# EAGLE library part IS42S32800L (library Public)
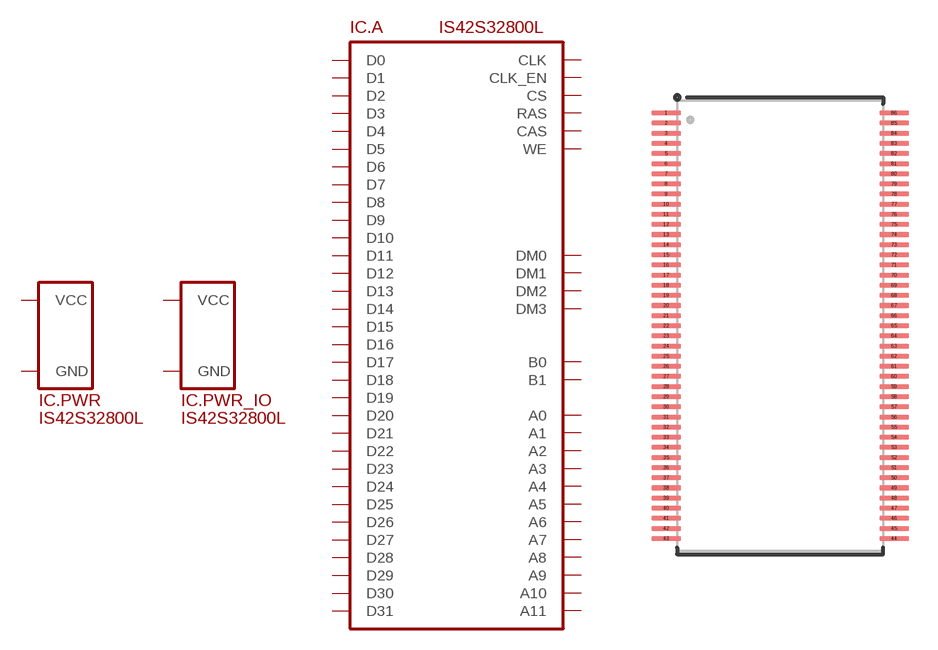
[diagram p72: symbol with the pads of TSOP86_II; footprint TSOP86_II]

Designator prefix IC; gates .PWR=SUPPLY_VCC/GND .PWR_IO=SUPPLY_VCC/GND .A=IS42S32800L

## IS42S32800L  [TSOP86_II]
1  .PWR:VCC
2  .A:D0
3  .PWR_IO:VCC
4  .A:D1
5  .A:D2
6  .PWR_IO:GND
7  .A:D3
8  .A:D4
9  .PWR_IO:VCC
10  .A:D5
11  .A:D6
12  .PWR_IO:GND
13  .A:D7
15  .PWR:VCC
16  .A:DM0
17  .A:WE
18  .A:CAS
19  .A:RAS
20  .A:CS
21  .A:A11
22  .A:B0
23  .A:B1
24  .A:A10
25  .A:A0
26  .A:A1
27  .A:A2
28  .A:DM2
29  .PWR:VCC
31  .A:D16
32  .PWR_IO:GND
33  .A:D17
34  .A:D18
35  .PWR_IO:VCC
36  .A:D19
37  .A:D20
38  .PWR_IO:GND
39  .A:D21
40  .A:D22
41  .PWR_IO:VCC
42  .A:D23
43  .PWR:VCC
44  .PWR:GND
45  .A:D24
46  .PWR_IO:GND
47  .A:D25
48  .A:D26
49  .PWR_IO:VCC
50  .A:D27
51  .A:D28
52  .PWR_IO:GND
53  .A:D29
54  .A:D30
55  .PWR_IO:VCC
56  .A:D31
58  .PWR:GND
59  .A:DM3
60  .A:A3
61  .A:A4
62  .A:A5
63  .A:A6
64  .A:A7
65  .A:A8
66  .A:A9
67  .A:CLK_EN
68  .A:CLK
71  .A:DM1
72  .PWR:GND
74  .A:D8
75  .PWR_IO:VCC
76  .A:D9
77  .A:D10
78  .PWR_IO:GND
79  .A:D11
80  .A:D12
81  .PWR_IO:VCC
82  .A:D13
83  .A:D14
84  .PWR_IO:GND
85  .A:D15
86  .PWR:GND

## Footprint TSOP86_II (pad centres in mm)
smd 1.44 x 0.25: 1 -5.62,10.5; 2 -5.62,10; 3 -5.62,9.5; 4 -5.62,9; 5 -5.62,8.5; 6 -5.62,8; 7 -5.62,7.5; 8 -5.62,7; 9 -5.62,6.5; 10 -5.62,6; 11 -5.62,5.5; 12 -5.62,5; 13 -5.62,4.5; 14 -5.62,4; 15 -5.62,3.5; 16 -5.62,3; 17 -5.62,2.5; 18 -5.62,2; 19 -5.62,1.5; 20 -5.62,1; 21 -5.62,0.5; 22 -5.62,0; 23 -5.62,-0.5; 24 -5.62,-1; 25 -5.62,-1.5; 26 -5.62,-2; 27 -5.62,-2.5; 28 -5.62,-3; 29 -5.62,-3.5; 30 -5.62,-4; 31 -5.62,-4.5; 32 -5.62,-5; 33 -5.62,-5.5; 34 -5.62,-6; 35 -5.62,-6.5; 36 -5.62,-7; 37 -5.62,-7.5; 38 -5.62,-8; 39 -5.62,-8.5; 40 -5.62,-9; 41 -5.62,-9.5; 42 -5.62,-10; 43 -5.62,-10.5; 44 5.62,-10.5; 45 5.62,-10; 46 5.62,-9.5; 47 5.62,-9; 48 5.62,-8.5; 49 5.62,-8; 50 5.62,-7.5; 51 5.62,-7; 52 5.62,-6.5; 53 5.62,-6; 54 5.62,-5.5; 55 5.62,-5; 56 5.62,-4.5; 57 5.62,-4; 58 5.62,-3.5; 59 5.62,-3; 60 5.62,-2.5; 61 5.62,-2; 62 5.62,-1.5; 63 5.62,-1; 64 5.62,-0.5; 65 5.62,0; 66 5.62,0.5; 67 5.62,1; 68 5.62,1.5; 69 5.62,2; 70 5.62,2.5; 71 5.62,3; 72 5.62,3.5; 73 5.62,4; 74 5.62,4.5; 75 5.62,5; 76 5.62,5.5; 77 5.62,6; 78 5.62,6.5; 79 5.62,7; 80 5.62,7.5; 81 5.62,8; 82 5.62,8.5; 83 5.62,9; 84 5.62,9.5; 85 5.62,10; 86 5.62,10.5